# EAGLE library part PROG_ADDRESS_STACK (library NerduinoShieldLib)
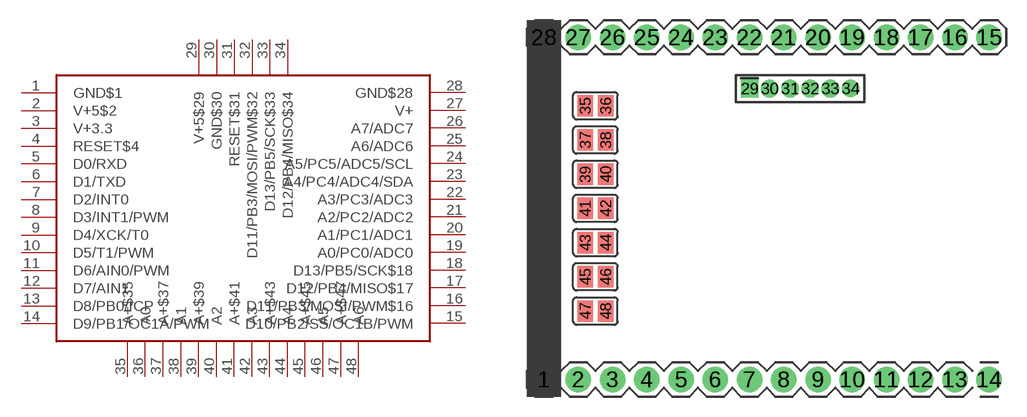
[diagram p3: symbol with the pads of PROG_ADDRESS_STACK; footprint PROG_ADDRESS_STACK]

Designator prefix -

## PROG_ADDRESS_STACK  [PROG_ADDRESS_STACK]
1  GND$1
2  V+5$2
3  V+3.3
4  RESET$4
5  D0/RXD
6  D1/TXD
7  D2/INT0
8  D3/INT1/PWM
9  D4/XCK/T0
10  D5/T1/PWM
11  D6/AIN0/PWM
12  D7/AIN1
13  D8/PB0/ICP
14  D9/PB1/OC1A/PWM
15  D10/PB2/SS/OC1B/PWM
16  D11/PB3/MOSI/PWM$16
17  D12/PB4/MISO$17
18  D13/PB5/SCK$18
19  A0/PC0/ADC0
20  A1/PC1/ADC1
21  A2/PC2/ADC2
22  A3/PC3/ADC3
23  A4/PC4/ADC4/SDA
24  A5/PC5/ADC5/SCL
25  A6/ADC6
26  A7/ADC7
27  V+
28  GND$28
29  V+5$29
30  GND$30
31  RESET$31
32  D11/PB3/MOSI/PWM$32
33  D13/PB5/SCK$33
34  D12/PB4/MISO$34
35  A+$35
36  A0
37  A+$37
38  A1
39  A+$39
40  A2
41  A+$41
42  A3
43  A+$43
44  A4
45  A+$45
46  A5
47  A+$47
48  A6

## Footprint PROG_ADDRESS_STACK (pad centres in mm)
drill 1.016 pad 1.88: 1 -17.78,-12.7; 2 -15.24,-12.7; 3 -12.7,-12.7; 4 -10.16,-12.7; 5 -7.62,-12.7; 6 -5.08,-12.7; 7 -2.54,-12.7; 8 0,-12.7; 9 2.54,-12.7; 10 5.08,-12.7; 11 7.62,-12.7; 12 10.16,-12.7; 13 12.7,-12.7; 14 15.24,-12.7; 15 15.24,12.7; 16 12.7,12.7; 17 10.16,12.7; 18 7.62,12.7; 19 5.08,12.7; 20 2.54,12.7; 21 0,12.7; 22 -2.54,12.7; 23 -5.08,12.7; 24 -7.62,12.7; 25 -10.16,12.7; 26 -12.7,12.7; 27 -15.24,12.7; 28 -17.78,12.7
drill 0.8 pad 1.27 square: 29 -2.54,8.89
drill 0.8 pad 1.27: 30 -1.04,8.89; 31 0.46,8.89; 32 1.96,8.89; 33 3.46,8.89; 34 4.96,8.9
smd 1.168 x 1.6: 35 -14.732,7.62; 36 -13.208,7.62; 37 -14.732,5.08; 38 -13.208,5.08; 39 -14.732,2.54; 40 -13.208,2.54; 41 -14.732,0; 42 -13.208,0; 43 -14.732,-2.54; 44 -13.208,-2.54; 45 -14.732,-5.08; 46 -13.208,-5.08; 47 -14.732,-7.62; 48 -13.208,-7.62